# Altium footprint library CiDLib.PcbLib: 54 footprints (part 2 of 4)
Each footprint in its own frame and in the unit in brackets; x right, y up, seen from the top. Pads: shape width x height; smd on the part's side, far side on the other; paste and mask are expansions set on the pad; w line width, h text height; cw(c..) or ccw(c..) is an arc to the next point about the centre after c.
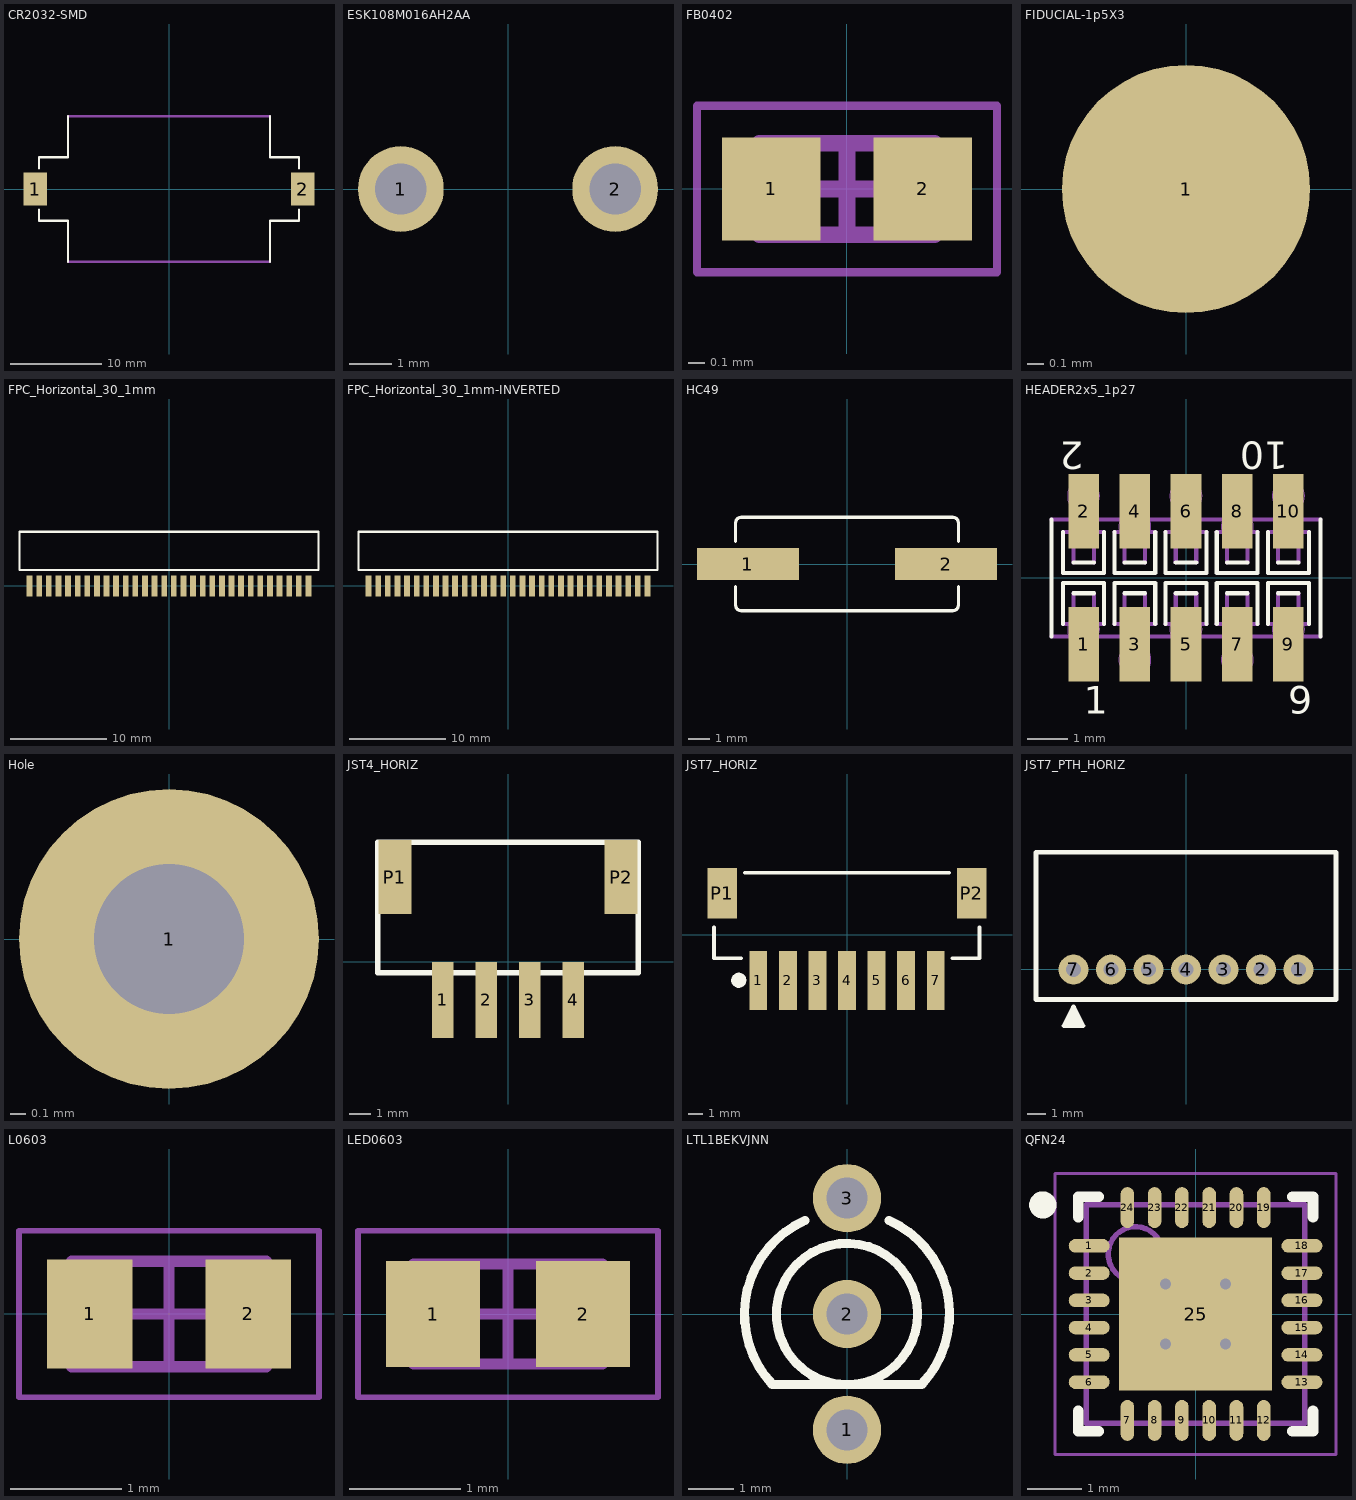
[diagram p1: the footprints below, top view; thin cyan lines are the x and y axes]

## CR2032-SMD [mm] "CR2032 Battery holder (SMD)"
pads (2):
  rect 2.6x3.6 smd: 1(-14.7,0) 2(14.7,0)
Top Overlay:
  lines w0.254: -14.3,-2.25 -14.3,-3.5 -11.1,-3.5 -11.1,-8 ; -14.3,2.25 -14.3,3.5 -11.1,3.5 -11.1,8 ; 11.1,-8 11.1,-3.5 14.3,-3.5 14.3,-2.25 ; 11.1,8 11.1,3.5 14.3,3.5 14.3,2.25
Mechanical 16:
  lines w0.254: -11.1,-8 11.1,-8 ; -11.1,8 11.1,8
3D body: height 5.55, standoff 0, extent -16,-8 16,8

## ESK108M016AH2AA [mm] "CAP ALUM 1000UF 20% 16V RADIAL"
pads (2):
  round 2 hole 1.2: 1(-2.5,0) 2(2.5,0)
3D body: height 4, standoff -4, extent -4,-14 4,-2

## FB0402 [mm]
height 0.5
pads (2):
  rect 0.59x0.62 smd: 1(-0.455,0) 2(0.455,0)
Mechanical 13:
  lines w0.1: -0.525,-0.275 -0.525,0.275 0.525,0.275 0.525,-0.275 -0.525,-0.275
Mechanical 15:
  lines w0.05: -0.9,-0.5 -0.9,0.5 0.9,0.5 0.9,-0.5 -0.9,-0.5
  lines w0.1: -0.275,0 0.275,0 ; 0,-0.275 0,0.275
3D body: height 0.5, standoff 0, extent -0.275,-0.275 0.275,0.275
3D body: height 0.5, standoff 0, extent -0.525,-0.275 -0.275,0.275
3D body: height 0.5, standoff 0, extent 0.275,-0.275 0.525,0.275

## FIDUCIAL-1p5X3 [mm]
pads (1):
  rrect100% 1.5x1.5 smd: 1(0,0)
Top Solder:
  circle w1.27: c0,0 r0.906

## FPC_Horizontal_30_1mm [mm] "Horizontal FPC connector with 30 leads and 1mm pitch"
pads (30):
  rect 0.6x2.2 smd: 1(-14.5,0) 2(-13.5,0) 3(-12.5,0) 4(-11.5,0) 5(-10.5,0) 6(-9.5,0) 7(-8.5,0) 8(-7.5,0) 9(-6.5,0) 10(-5.5,0) 11(-4.5,0) 12(-3.5,0) 13(-2.5,0) 14(-1.5,0) 15(-0.5,0) 16(0.5,0) 17(1.5,0) 18(2.5,0) 19(3.5,0) 20(4.5,0) 21(5.5,0) 22(6.5,0) 23(7.5,0) 24(8.5,0) 25(9.5,0) 26(10.5,0) 27(11.5,0) 28(12.5,0) 29(13.5,0) 30(14.5,0)
Top Overlay:
  lines w0.254: -15.55,1.65 -15.55,5.65 15.55,5.65 15.55,1.65 -15.55,1.65
3D body: height 3, standoff 0, extent -15.549,1.651 15.549,5.649

## FPC_Horizontal_30_1mm-INVERTED [mm] "Horizontal FPC connector with 30 leads and 1mm pitch"
pads (30):
  rect 0.6x2.2 smd: 1(14.5,0) 2(13.5,0) 3(12.5,0) 4(11.5,0) 5(10.5,0) 6(9.5,0) 7(8.5,0) 8(7.5,0) 9(6.5,0) 10(5.5,0) 11(4.5,0) 12(3.5,0) 13(2.5,0) 14(1.5,0) 15(0.5,0) 16(-0.5,0) 17(-1.5,0) 18(-2.5,0) 19(-3.5,0) 20(-4.5,0) 21(-5.5,0) 22(-6.5,0) 23(-7.5,0) 24(-8.5,0) 25(-9.5,0) 26(-10.5,0) 27(-11.5,0) 28(-12.5,0) 29(-13.5,0) 30(-14.5,0)
Top Overlay:
  lines w0.254: -15.55,1.65 15.55,1.65 15.55,5.65 -15.55,5.65 -15.55,1.65
3D body: height 3, standoff 0, extent -15.549,1.651 15.549,5.649

## HC49 [mm]
pads (2):
  rect 4.8x1.5 smd: 1(-4.675,0) 2(4.675,0)
Top Overlay:
  lines w0.152: -5.254,-1.075 -5.254,-1.946 ccw(c-5,-1.946) -5,-2.2 5,-2.2 ccw(c5,-1.946) 5.254,-1.946 5.254,-1.075 ; -5.254,1.075 -5.254,1.946 cw(c-5,1.946) -5,2.2 5,2.2 cw(c5,1.946) 5.254,1.946 5.254,1.075
3D body "User Library-Crystal HC49_US-SM.step": height 4.3, standoff 0, extent -6.4,-2.415 6.4,2.415

## HEADER2x5_1p27 [mm] "HEADER2x5 1.27"
pads (10):
  rect 0.76x1.85 smd: 1(-2.54,-1.65) 2(-2.54,1.65) 3(-1.27,-1.65) 4(-1.27,1.65) 5(0,-1.65) 6(0,1.65) 7(1.27,-1.65) 8(1.27,1.65) 9(2.54,-1.65) 10(2.54,1.65)
Top Overlay:
  lines w0.102: -3.335,-1.45 -3.335,1.45 ; -3.048,-1.143 -3.048,-0.127 -2.032,-0.127 -2.032,-1.143 ; -3.048,1.143 -3.048,0.127 -2.032,0.127 -2.032,1.143 ; -2.794,-0.381 -2.286,-0.381 ; -2.794,0.381 -2.286,0.381 ; -1.778,-1.143 -1.778,-0.127 -0.762,-0.127 -0.762,-1.143 ; -1.778,1.143 -1.778,0.127 -0.762,0.127 -0.762,1.143 ; -1.524,-0.381 -1.016,-0.381 ; -1.524,0.381 -1.016,0.381 ; -0.508,-1.143 -0.508,-0.127 0.508,-0.127 0.508,-1.143 ; -0.508,1.143 -0.508,0.127 0.508,0.127 0.508,1.143 ; -0.254,-0.381 0.254,-0.381 ; -0.254,0.381 0.254,0.381 ; 0.762,-1.143 0.762,-0.127 1.778,-0.127 1.778,-1.143 ; 0.762,1.143 0.762,0.127 1.778,0.127 1.778,1.143 ; 1.016,-0.381 1.524,-0.381 ; 1.016,0.381 1.524,0.381 ; 2.032,-1.143 2.032,-0.127 3.048,-0.127 3.048,-1.143 ; 2.032,1.143 2.032,0.127 3.048,0.127 3.048,1.143 ; 2.286,-0.381 2.794,-0.381 ; 2.286,0.381 2.794,0.381 ; 3.335,-1.45 3.335,1.45
  text "10" at 2.54,3.375 h0.69
  text "9" at 2.54,-3.375 h0.69
  text "2" at -2.54,3.375 h0.69
  text "1" at -2.54,-3.375 h0.69
Mechanical 16:
  lines w0.102: -3.335,-1.45 3.335,-1.45 ; -3.335,1.45 3.335,1.45 ; -3.048,-1.143 -2.032,-1.143 ; -3.048,1.143 -2.032,1.143 ; -2.794,-0.381 -2.794,-0.889 -2.286,-0.889 -2.286,-0.381 ; -2.794,0.381 -2.794,0.889 -2.286,0.889 -2.286,0.381 ; -1.778,-1.143 -0.762,-1.143 ; -1.778,1.143 -0.762,1.143 ; -1.524,-0.381 -1.524,-0.889 -1.016,-0.889 -1.016,-0.381 ; -1.524,0.381 -1.524,0.889 -1.016,0.889 -1.016,0.381 ; -0.508,-1.143 0.508,-1.143 ; -0.508,1.143 0.508,1.143 ; -0.254,-0.381 -0.254,-0.889 0.254,-0.889 0.254,-0.381 ; -0.254,0.381 -0.254,0.889 0.254,0.889 0.254,0.381 ; 0.762,-1.143 1.778,-1.143 ; 0.762,1.143 1.778,1.143 ; 1.016,-0.381 1.016,-0.889 1.524,-0.889 1.524,-0.381 ; 1.016,0.381 1.016,0.889 1.524,0.889 1.524,0.381 ; 2.032,-1.143 3.048,-1.143 ; 2.032,1.143 3.048,1.143 ; 2.286,-0.381 2.286,-0.889 2.794,-0.889 2.794,-0.381 ; 2.286,0.381 2.286,0.889 2.794,0.889 2.794,0.381
Mechanical 86:
  circle w0: c2.54,-1.27 r0.4
  circle w0: c1.27,-2.032 r0.4
  circle w0: c0,-1.27 r0.4
  circle w0: c-1.27,-2.032 r0.4
  circle w0: c-2.54,-1.27 r0.4
  circle w0: c2.54,2.032 r0.4
  circle w0: c1.27,1.27 r0.4
  circle w0: c0,2.032 r0.4
  circle w0: c-1.27,1.27 r0.4
  circle w0: c-2.54,2.032 r0.4

## Hole [mm] "PTH Hole for wire soldering"
pads (1):
  round 2 hole 1: 1(0,0)

## JST4_HORIZ [mm] "SMT Horizontal JST 4 leads connector"
pads (6):
  rect 1x3.5 smd: 1(-3,-1.75) 2(-1,-1.75) 3(1,-1.75) 4(3,-1.75)
  rect 1.5x3.4 smd: P1(-5.2,3.9) P2(5.2,3.9)
Top Overlay:
  lines w0.254: -6,-0.5 -6,5.5 6,5.5 6,-0.5 -6,-0.5
3D body: height 5.5, standoff 0, extent -5.999,-0.499 5.999,5.499

## JST7_HORIZ [mm]
pads (9):
  rect 1.2x4 smd: 1(-6,-3.075) 2(-4,-3.075) 3(-2,-3.075) 4(0,-3.075) 5(2,-3.075) 6(4,-3.075) 7(6,-3.075)
  rect 2x3.4 smd: P1(-8.45,2.825) P2(8.45,2.825)
Top Overlay:
  circle w0.5: c-7.326,-3.068 r0.26
  lines w0.254: -9,0.515 -9,-1.575 -7.16,-1.575 ; -6.9,4.2 6.9,4.2 ; 7.137,-1.575 8.969,-1.575 8.969,0.508
3D body "S7B-PH-SM4-TB.STEP": height 5.5, standoff -0.1, extent -8.931,-4.385 8.969,4.215

## JST7_PTH_HORIZ [mm]
pads (7):
  round 1.6 hole 0.8: 1(6,0) 2(4,0) 3(2,0) 4(0,0) 5(-2,0) 6(-4,0) 7(-6,0)
Top Overlay:
  region: -6,-2 -5.794,-2.413 -5.5,-3 -6.5,-3
  lines w0.254: -8,-1.6 8,-1.6 8,6.25 -8,6.25 -8,-1.6 ; -6.5,-3 -6,-2 -5.5,-3 -6.5,-3
3D body: height 5.2, standoff 0, extent -8,-1.6 8,6.25

## L0603 [mm]
height 0.8
pads (2):
  rect 0.77x0.98 smd: 1(-0.715,0) 2(0.715,0)
Mechanical 13:
  lines w0.1: -0.875,-0.475 -0.875,0.475 0.875,0.475 0.875,-0.475 -0.875,-0.475
Mechanical 15:
  lines w0.05: -1.35,-0.75 -1.35,0.75 1.35,0.75 1.35,-0.75 -1.35,-0.75
  lines w0.1: -0.475,0 0.475,0 ; 0,-0.475 0,0.475
3D body: height 0.8, standoff 0, extent -0.575,-0.475 0.575,0.475
3D body: height 0.8, standoff 0, extent -0.875,-0.475 -0.575,0.475
3D body: height 0.8, standoff 0, extent 0.575,-0.475 0.875,0.475

## LED0603 [mm]
height 0.4
pads (2):
  rect 0.85x0.95 smd: 1(-0.675,0) 2(0.675,0)
Mechanical 13:
  lines w0.1: -0.85,-0.45 0.85,-0.45 0.85,0.45 -0.85,0.45 -0.85,-0.45
Mechanical 15:
  lines w0.05: -1.35,-0.75 1.35,-0.75 1.35,0.75 -1.35,0.75 -1.35,-0.75
  lines w0.1: -0.45,0 0.45,0 ; 0,-0.45 0,0.45
3D body: height 0.4, standoff 0, extent 0.45,-0.45 0.85,0.45
3D body: height 0.4, standoff 0, extent -0.85,-0.45 -0.45,0.45
3D body: height 0.4, standoff 0, extent -0.45,-0.45 0.45,0.45

## LTL1BEKVJNN [mm] "LED GRN/RED DIFF 3MM ROUND T/H"
height 5.15
pads (3):
  round 1.5 hole 0.9: 1(0,-2.54) 2(0,0) 3(0,2.54)
Top Overlay:
  circle w0.2: c0,0 r1.55
  lines w0.2: -1.64,-1.55 1.64,-1.55 ; -1.64,-1.541 cw(c0,0) -0.923,2.052 ; 0.923,2.052 cw(c0,0) 1.64,-1.541
3D body "User Library-3mmBiColorLED.step": height 7.51, standoff -2.53, extent -2.024,-2.794 2.024,2.794

## QFN24 [mm]
height 0.65
pads (25):
  oval 0.75x0.25 smd: 1(-1.95,1.25) 2(-1.95,0.75) 3(-1.95,0.25) 4(-1.95,-0.25) 5(-1.95,-0.75) 6(-1.95,-1.25) 13(1.95,-1.25) 14(1.95,-0.75) 15(1.95,-0.25) 16(1.95,0.25) 17(1.95,0.75) 18(1.95,1.25)
  oval 0.25x0.75 smd: 7(-1.25,-1.95) 8(-0.75,-1.95) 9(-0.25,-1.95) 10(0.25,-1.95) 11(0.75,-1.95) 12(1.25,-1.95) 19(1.25,1.95) 20(0.75,1.95) 21(0.25,1.95) 22(-0.25,1.95) 23(-0.75,1.95) 24(-1.25,1.95)
  rect 2.8x2.8 smd: 25(0,0)
via -0.55,0.55 diameter 0.5 hole 0.2
via 0.55,0.55 diameter 0.5 hole 0.2
via -0.55,-0.55 diameter 0.5 hole 0.2
via 0.55,-0.55 diameter 0.5 hole 0.2
Top Overlay:
  circle w0.25: c-2.8,2 r0.125
  lines w0.2: -2.15,-1.775 -2.15,-2.15 -1.775,-2.15 ; -2.15,1.775 -2.15,2.15 -1.775,2.15 ; 1.775,-2.15 2.15,-2.15 2.15,-1.775 ; 1.775,2.15 2.15,2.15 2.15,1.775
Mechanical 13:
  circle w0.1: c-1.1,1.1 r0.5
  lines w0.1: -2,-2 -2,2 2,2 2,-2 -2,-2
Mechanical 15:
  lines w0.05: -2.575,-2.575 -2.575,2.575 2.575,2.575 2.575,-2.575 -2.575,-2.575
  lines w0.1: -0.5,0 0.5,0 ; 0,-0.5 0,0.5
3D body "User Library-QFN 24 4x4.step": height 0.9, standoff 0, extent -2.002,-2.002 2.002,2.002